# Altium footprint library BU2032SM-JJ_GTR.PcbLib: 1 footprints
Each footprint in its own frame and in the unit in brackets; x right, y up, seen from the top. Pads: shape width x height; smd on the part's side, far side on the other; paste and mask are expansions set on the pad; w line width, h text height; cw(c..) or ccw(c..) is an arc to the next point about the centre after c.
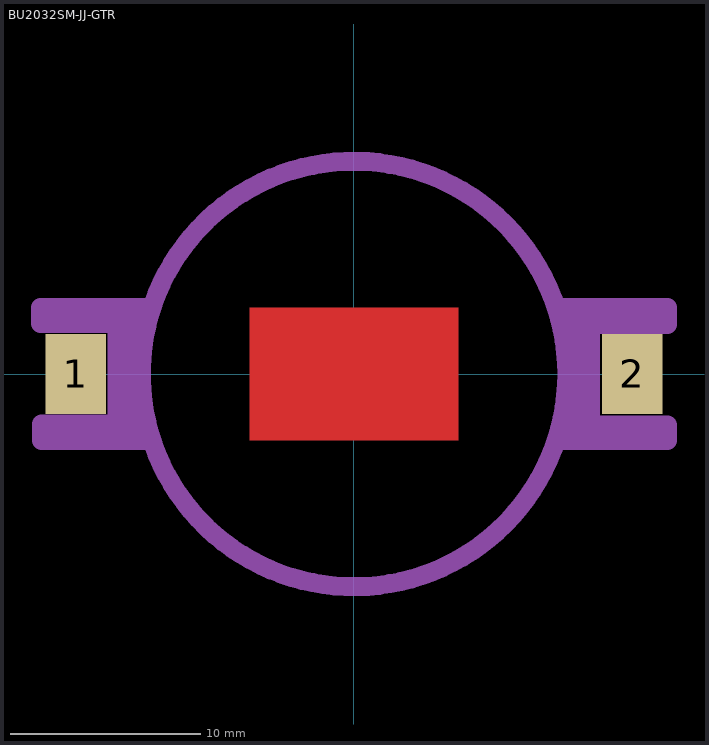
[diagram p0: the footprint, top view; thin cyan lines are the x and y axes]

## BU2032SM-JJ-GTR [mm]
pads (2):
  rect 3.2x4.2 smd: 1(-14.65,0) 2(14.65,0)
Top Layer:
  rectangle: -5.5,-3.5 5.5,3.5
Mechanical 1:
  circle w1: c0,0 r11.2
  rectangle: 11.151,2.769 12.725,2.794
  rectangle: 10.973,-2.642 12.954,2.337
  rectangle: -12.979,-2.438 -11.278,2.337
  lines w1: -11.176,-2.819 -11.354,-2.642 -16.459,-2.642 -16.459,-3.5 -11,-3.5 ; -11.1,2.845 -11.278,2.667 -16.5,2.667 -16.5,3.5 -11,3.5 ; 10.947,-2.845 11.1,-2.692 16.5,-2.692 16.5,-3.5 11,-3.5 ; 11,3.5 16.5,3.5 16.5,2.616 11.303,2.616 11.151,2.769
  text "-" at 7.29,-1.549 h3
  text "+" at -8.89,-1.626 h3